# EAGLE library part SN74F151BN (library SN74F151BN)
1 OF 8 DATA SELECTORS/MULTIPLEXERS
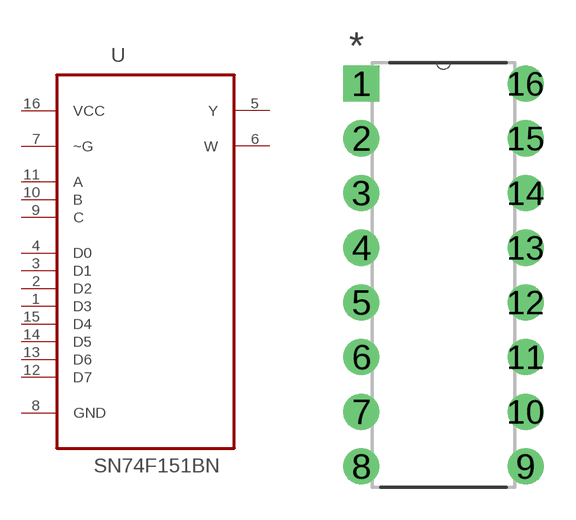
[diagram p0: symbol with the pads of DIP254P762X508-16; footprint DIP254P762X508-16]

Designator prefix U

## SN74F151BN (MPN: SN74F151BN; OC_FARNELL: 1741553; OC_NEWARK: 50R6378; PACKAGE: 16-DIP; SUPPLIER: Texas Instruments)  [DIP254P762X508-16]
1  D3  in
2  D2  in
3  D1  in
4  D0  in
5  Y  out
6  W  out
7  ~G  in
8  GND  pas
9  C  in
10  B  in
11  A  in
12  D7  in
13  D6  in
14  D5  in
15  D4  in
16  VCC  pwr

## Footprint DIP254P762X508-16 (pad centres in mm)
drill 1.118 square: 1 -7.62,17.78
drill 1.118: 2 -7.62,15.24; 3 -7.62,12.7; 4 -7.62,10.16; 5 -7.62,7.62; 6 -7.62,5.08; 7 -7.62,2.54; 8 -7.62,0; 9 0,0; 10 0,2.54; 11 0,5.08; 12 0,7.62; 13 0,10.16; 14 0,12.7; 15 0,15.24; 16 0,17.78